# Altium schematic symbol library LM317LCPK.SchLib: 1 symbol
Pins are listed as number, name and electrical type; pins without a type are passive.

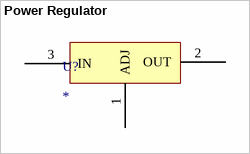
[diagram p0: symbol Power Regulator]

## Power Regulator
designator U?
Power Regulator
footprint LM317LCPK (SOT89-150P350X160-3N, SOT89, 3-Leads, Body 4.50x2.50mm, Pitch 1.50mm, Lead Span 3.5mm, IPC Medium Density)
pins: 1 ADJ, 2 OUT, 3 IN